# Altium footprint library Molex Micro-Fit.PcbLib: 6 footprints
Each footprint in its own frame and in the unit in brackets; x right, y up, seen from the top. Pads: shape width x height; smd on the part's side, far side on the other; paste and mask are expansions set on the pad; w line width, h text height; cw(c..) or ccw(c..) is an arc to the next point about the centre after c.
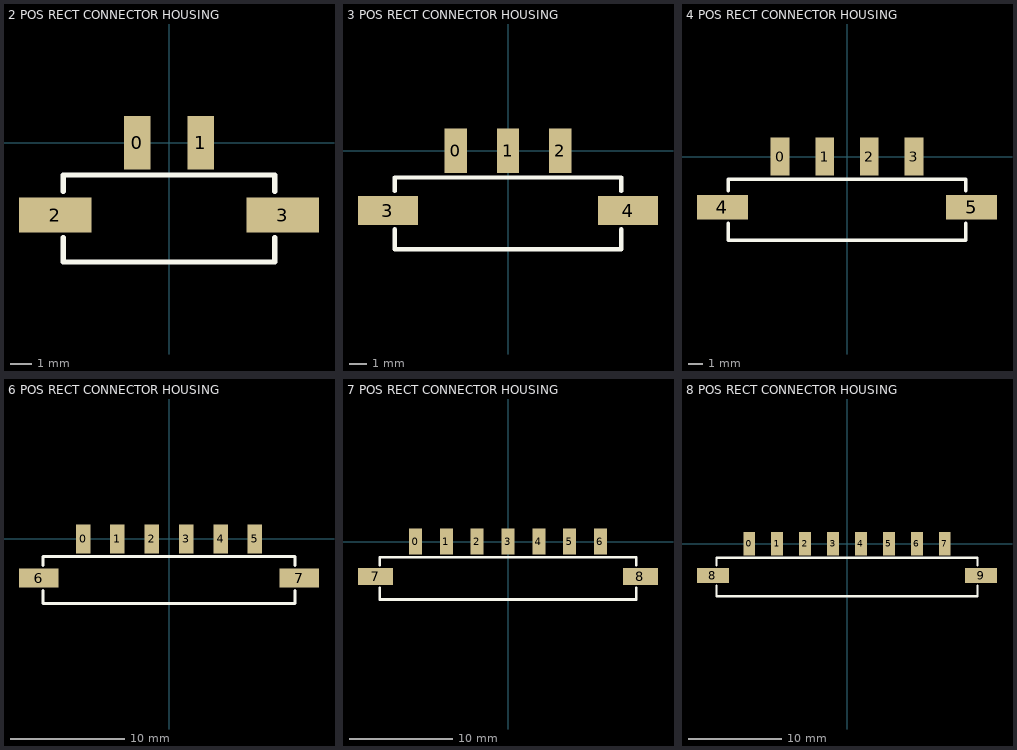
[diagram p0: the footprints below, top view; thin cyan lines are the x and y axes]

## 2 POS RECT CONNECTOR HOUSING [mm]
pads (4):
  rect 1.27x2.54 smd: 0(-1.5,0) 1(1.5,0)
  rect 3.43x1.65 smd: 2(-5.385,-3.42) 3(5.385,-3.42)
Top Overlay:
  lines w0.254: -5,-4.5 -5,-5.64 5,-5.64 5,-4.5 ; -5,-2.3 -5,-1.524 5,-1.524 5,-2.3
3D body "436500224.stp": height 9.95, standoff 0.02, extent -6.825,-5.87 6.825,0.7

## 3 POS RECT CONNECTOR HOUSING [mm]
pads (5):
  rect 1.27x2.54 smd: 0(-3,0) 1(0,0) 2(3,0)
  rect 3.43x1.65 smd: 3(-6.885,-3.42) 4(6.885,-3.42)
Top Overlay:
  lines w0.254: -6.5,-4.5 -6.5,-5.64 6.5,-5.64 6.5,-4.5 ; -6.5,-2.3 -6.5,-1.524 6.5,-1.524 6.5,-2.3
3D body "436500324.stp": height 9.95, standoff 0.02, extent -8.325,-5.97 8.325,0.6

## 4 POS RECT CONNECTOR HOUSING [mm]
pads (6):
  rect 1.27x2.54 smd: 0(-4.5,0) 1(-1.5,0) 2(1.5,0) 3(4.5,0)
  rect 3.43x1.65 smd: 4(-8.385,-3.42) 5(8.385,-3.42)
Top Overlay:
  lines w0.254: -8,-4.5 -8,-5.64 8,-5.64 8,-4.5 ; -8,-2.3 -8,-1.524 8,-1.524 8,-2.3
3D body "436500424.stp": height 9.95, standoff 0.02, extent -9.825,-5.97 9.825,0.6

## 6 POS RECT CONNECTOR HOUSING [mm]
pads (8):
  rect 1.27x2.54 smd: 0(-7.5,0) 1(-4.5,0) 2(-1.5,0) 3(1.5,0) 4(4.5,0) 5(7.5,0)
  rect 3.43x1.65 smd: 6(-11.385,-3.42) 7(11.385,-3.42)
Top Overlay:
  lines w0.254: -11,-4.5 -11,-5.64 11,-5.64 11,-4.5 ; -11,-2.3 -11,-1.524 11,-1.524 11,-2.3
3D body "436500624.stp": height 9.95, standoff 0.02, extent -12.82,-5.9 12.82,0.67

## 7 POS RECT CONNECTOR HOUSING [mm]
pads (9):
  rect 1.27x2.54 smd: 0(-9,0) 1(-6,0) 2(-3,0) 3(0,0) 4(3,0) 5(6,0) 6(9,0)
  rect 3.43x1.65 smd: 7(-12.885,-3.42) 8(12.885,-3.42)
Top Overlay:
  lines w0.254: -12.5,-4.5 -12.5,-5.64 12.5,-5.64 12.5,-4.5 ; -12.5,-2.3 -12.5,-1.524 12.5,-1.524 12.5,-2.3
3D body "436500724.stp": height 9.95, standoff 0.02, extent -14.32,-5.87 14.32,0.7

## 8 POS RECT CONNECTOR HOUSING [mm]
pads (10):
  rect 1.27x2.54 smd: 0(-10.5,0) 1(-7.5,0) 2(-4.5,0) 3(-1.5,0) 4(1.5,0) 5(4.5,0) 6(7.5,0) 7(10.5,0)
  rect 3.43x1.65 smd: 8(-14.385,-3.42) 9(14.385,-3.42)
Top Overlay:
  lines w0.254: -14,-4.5 -14,-5.64 14,-5.64 14,-4.5 ; -14,-2.3 -14,-1.524 14,-1.524 14,-2.3
3D body "436500824.stp": height 9.95, standoff 0.02, extent -15.82,-5.97 15.82,0.6